# Altium footprint library Connectors.PcbLib: 80 footprints (part 1 of 5)
Each footprint in its own frame and in the unit in brackets; x right, y up, seen from the top. Pads: shape width x height; smd on the part's side, far side on the other; paste and mask are expansions set on the pad; w line width, h text height; cw(c..) or ccw(c..) is an arc to the next point about the centre after c.
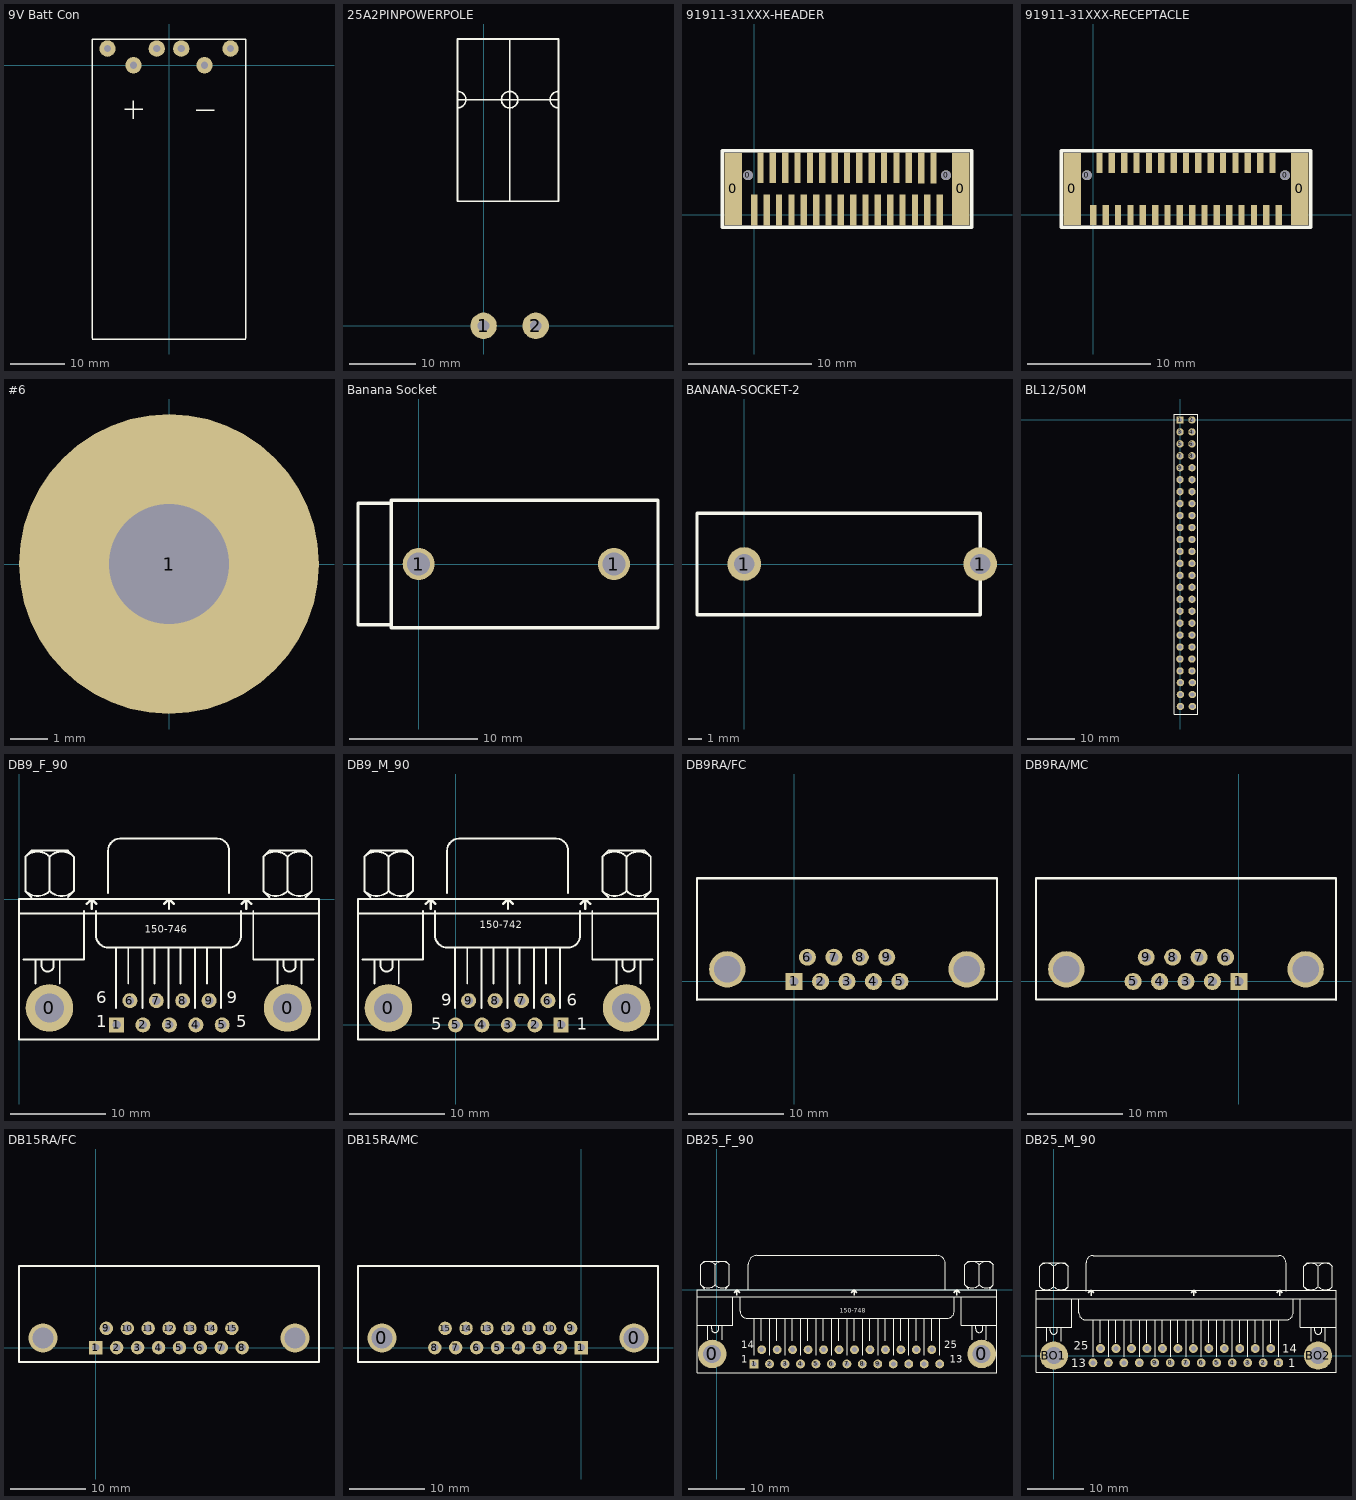
[diagram p0: the footprints below, top view; thin cyan lines are the x and y axes]

## 9V Batt Con [mm]
pads (6):
  round 3 hole 1.32: Batt+(-11.25,3.05) Batt+(-6.5,0) Batt+(-2.25,3.05) Batt-(2.25,3.05) Batt-(6.5,0) Batt-(11.25,3.05)
TopOverlay:
  lines w0.254: -14,-50.1 14,-50.1 ; -14,-50 -14,4.8 14,4.8 14,-50 ; -8.1,-8.1 -4.8,-8.1 ; -6.5,-9.8 -6.5,-6.5 ; 5,-8.2 8.3,-8.2

## 25A2PINPOWERPOLE [mm]
pads (2):
  round 4 hole 1.8: 1(0,0) 2(7.9,0)
TopOverlay:
  circle w0.254: c3.95,34.3 r1.25
  lines w0.254: -3.95,33.05 ccw(c-3.95,34.3) -3.95,35.55 ; -3.95,34.3 11.25,34.3 ; 11.35,33.05 cw(c11.35,34.3) 11.35,35.55 ; 3.95,18.9 11.35,18.9 11.35,43.5 3.95,43.5 ; 3.95,18.9 -3.95,18.9 -3.95,43.5 3.95,43.5 ; 3.95,18.9 3.95,43.5

## 91911-31XXX-HEADER [mm]
pads (35):
  rect 1.4x5.85 smd: 0(-1.72,2.11) 0(16.72,2.11)
  round 0.8 hole 0.8: 0(-0.52,3.21) 0(15.52,3.21)
  rect 0.51x2.5 smd: 1(15,0.4) 2(14.5,3.8) 3(14,0.4) 4(13.5,3.8) 5(13,0.4) 6(12.5,3.82) 7(12,0.4) 8(11.5,3.82) 9(11,0.4) 10(10.5,3.82) 11(10,0.4) 12(9.5,3.82) 13(9,0.4) 14(8.5,3.82) 15(8,0.4) 16(7.5,3.82) 17(7,0.4) 18(6.5,3.82) 19(6,0.4) 20(5.5,3.82) 21(5,0.4) 22(4.5,3.82) 23(4,0.4) 24(3.5,3.82) 25(3,0.4) 26(2.5,3.82) 27(2,0.4) 28(1.5,3.82) 29(1,0.4) 30(0.5,3.82) 31(0,0.4)
TopOverlay:
  lines w0.254: -2.6,-1 -2.6,5.2 17.6,5.2 17.6,-1 -2.6,-1

## 91911-31XXX-RECEPTACLE [mm]
pads (35):
  rect 1.4x5.85 smd: 0(-1.72,2.11) 0(16.72,2.11)
  round 0.8 hole 0.8: 0(-0.526,3.21) 0(15.52,3.21)
  rect 0.51x1.63 smd: 1(0,0) 2(0.5,4.22) 3(1,0) 4(1.5,4.22) 5(2,0) 6(2.5,4.22) 7(3,0) 8(3.5,4.22) 9(4,0) 10(4.5,4.22) 11(5,0) 12(5.5,4.22) 13(6,0) 14(6.5,4.22) 15(7,0) 16(7.5,4.22) 17(8,0) 18(8.5,4.22) 19(9,0) 20(9.5,4.22) 21(10,0) 22(10.5,4.22) 23(11,0) 24(11.5,4.22) 25(12,0) 26(12.5,4.22) 27(13,0) 28(13.5,4.22) 29(14,0) 30(14.5,4.22) 31(15,0)
TopOverlay:
  lines w0.254: -2.6,-1 -2.6,5.2 17.6,5.2 17.6,-1 -2.6,-1

## #6 [mm]
pads (1):
  round 8 hole 3.2: 1(0,0)

## Banana Socket [mm]
pads (2):
  round 2.5 hole 1.8: 1(0,0) 1(15.3,0)
TopOverlay:
  lines w0.254: -2.15,-4.75 -4.75,-4.75 -4.75,4.75 -2.15,4.75 ; -2.15,-5 -2.15,5 18.75,5 18.75,-5 -2.15,-5

## BANANA-SOCKET-2 [mm]
pads (2):
  round 2.5 hole 1.5: 1(0,0) 1(17.5,0)
TopOverlay:
  lines w0.254: -3.5,-3.75 -3.5,3.75 17.5,3.75 17.5,-3.75 -3.5,-3.75

## BL12/50M [mil]
pads (50):
  rect 62x62 hole 35: 1(0,0)
  round 62 hole 35: 2(100,0) 3(0,-100) 4(100,-100) 5(0,-200) 6(100,-200) 7(0,-300) 8(100,-300) 9(0,-400) 10(100,-400) 11(0,-500) 12(100,-500) 13(0,-600) 14(100,-600) 15(0,-700) 16(100,-700) 17(0,-800) 18(100,-800) 19(0,-900) 20(100,-900) 21(0,-1000) 22(100,-1000) 23(0,-1100) 24(100,-1100) 25(0,-1200) 26(100,-1200) 27(0,-1300) 28(100,-1300) 29(0,-1400) 30(100,-1400) 31(0,-1500) 32(100,-1500) 33(0,-1600) 34(100,-1600) 35(0,-1700) 36(100,-1700) 37(0,-1800) 38(100,-1800) 39(0,-1900) 40(100,-1900) 41(-1,-2000) 42(99,-2000) 43(0,-2100) 44(100,-2100) 45(3,-2197) 46(103,-2197) 47(3,-2297) 48(103,-2297) 49(3,-2397) 50(103,-2397)
TopOverlay:
  lines w10: -50,-2460 150,-2460 150,50 -50,50 -50,-2460

## DB9_F_90 [mil]
pads (11):
  round 196.67 hole 118.33: 0(125.83,-450) 0(1110,-450)
  rect 62x62 hole 35: 1(403.33,-520)
  round 62 hole 35: 2(512.5,-520) 3(621.67,-520) 4(730.83,-520) 5(840,-520) 6(458.33,-420) 7(567.5,-420) 8(676.67,-420) 9(785.83,-420)
TopOverlay:
  lines w8: 0,-60 1240,-60 ; 18.33,-250 268.33,-250 268.33,-50 ; 26.58,33.25 ccw(c76.67,83.33) 126.75,33.25 ; 26.58,175.09 cw(c76.67,125) 126.75,175.09 ; 51.67,8.33 26.67,33.33 26.67,175 51.67,200 201.67,200 226.67,175 226.67,33.33 201.67,8.33 ; 68.33,-350 68.33,-250 ; 93.33,-250 93.33,-275 ccw(c118.33,-275) 143.33,-275 143.33,-250 ; 126.58,33.25 ccw(c176.67,83.33) 226.75,33.25 ; 126.58,175.09 cw(c176.67,125) 226.75,175.09 ; 126.67,33.33 126.67,175 ; 168.33,-350 168.33,-250 ; 318.33,-50 318.33,-150 ccw(c368.33,-150) 368.33,-200 868.33,-200 ccw(c868.33,-150) 918.33,-150 918.33,-50 ; 368.33,25 368.33,200 cw(c418.33,200) 418.33,250 818.33,250 cw(c818.33,200) 868.33,200 868.33,25 ; 401.67,-450 401.67,-200 ; 451.67,-350 451.67,-200 ; 510,-450 510,-200 ; 560,-350 560,-200 ; 618.33,-450 618.33,-200 ; 668.33,-350 668.33,-200 ; 726.67,-450 726.67,-200 ; 776.67,-350 776.67,-200 ; 835,-450 835,-200 ; 968.33,-50 968.33,-250 1218.33,-250 ; 1009.91,33.25 ccw(c1060,83.33) 1110.09,33.25 ; 1009.91,175.09 cw(c1060,125) 1110.09,175.09 ; 1035,8.33 1010,33.33 1010,175 1035,200 1185,200 1210,175 1210,33.33 1185,8.33 ; 1068.33,-350 1068.33,-250 ; 1093.33,-250 1093.33,-275 ccw(c1118.33,-275) 1143.33,-275 1143.33,-250 ; 1109.91,33.25 ccw(c1160,83.33) 1210.09,33.25 ; 1109.91,175.09 cw(c1160,125) 1210.09,175.09 ; 1110,33.33 1110,175 ; 1168.33,-350 1168.33,-250 ; 0,-580 1240,-580 1240,0 0,0 0,-580
  lines w10: 280,-20 300,0 ; 300,-40 300,0 ; 320,-20 300,0 ; 600,-20 620,0 ; 620,-40 620,0 ; 640,-20 620,0 ; 920,-20 940,0 ; 940,-40 940,0 ; 960,-20 940,0
  text "9" at 858.33,-430 h50
  text "5" at 898.33,-530 h50
  text "1" at 318.33,-530 h50
  text "6" at 318.33,-430 h50
  text "150-746" at 520,-140 h30

## DB9_M_90 [mil]
pads (11):
  round 196.67 hole 118.33: 0(-277.5,70) 0(706.66,70)
  rect 62x62 hole 35: 1(436.67,0)
  round 62 hole 35: 2(327.5,0) 3(218.33,0) 4(109.17,0) 5(0,0) 6(381.67,100) 7(272.5,100) 8(163.33,100) 9(54.17,100)
TopOverlay:
  lines w8: -403.33,460 836.67,460 ; -385,270 -135,270 -135,470 ; -376.75,553.25 ccw(c-326.67,603.33) -276.58,553.25 ; -376.75,695.09 cw(c-326.67,645) -276.58,695.09 ; -351.67,528.33 -376.67,553.33 -376.67,695 -351.67,720 -201.67,720 -176.67,695 -176.67,553.33 -201.67,528.33 ; -335,170 -335,270 ; -310,270 -310,245 ccw(c-285,245) -260,245 -260,270 ; -276.75,553.25 ccw(c-226.67,603.33) -176.58,553.25 ; -276.75,695.09 cw(c-226.67,645) -176.58,695.09 ; -276.67,553.33 -276.67,695 ; -235,170 -235,270 ; -85,470 -85,370 ccw(c-35,370) -35,320 465,320 ccw(c465,370) 515,370 515,470 ; -35,545 -35,720 cw(c15,720) 15,770 415,770 cw(c415,720) 465,720 465,545 ; -1.67,70 -1.67,320 ; 48.33,170 48.33,320 ; 106.67,70 106.67,320 ; 156.67,170 156.67,320 ; 215,70 215,320 ; 265,170 265,320 ; 323.33,70 323.33,320 ; 373.33,170 373.33,320 ; 431.67,70 431.67,320 ; 565,470 565,270 815,270 ; 606.58,553.25 ccw(c656.66,603.33) 706.75,553.25 ; 606.58,695.09 cw(c656.66,645) 706.75,695.09 ; 631.66,528.33 606.66,553.33 606.66,695 631.66,720 781.66,720 806.66,695 806.66,553.33 781.66,528.33 ; 665,170 665,270 ; 690,270 690,245 ccw(c715,245) 740,245 740,270 ; 706.58,553.25 ccw(c756.66,603.33) 806.75,553.25 ; 706.58,695.09 cw(c756.66,645) 806.75,695.09 ; 706.66,553.33 706.66,695 ; 765,170 765,270 ; -403.33,-60 -403.33,520 836.67,520 836.67,-60 -403.33,-60
  lines w10: -123.33,500 -103.33,520 ; -103.33,480 -103.33,520 ; -83.33,500 -103.33,520 ; 196.67,500 216.67,520 ; 216.67,480 216.67,520 ; 236.67,500 216.67,520 ; 516.67,500 536.67,520 ; 536.67,480 536.67,520 ; 556.67,500 536.67,520
  text "6" at 460,80 h50
  text "1" at 500,-20 h50
  text "5" at -100,-20 h50
  text "9" at -60,80 h50
  text "150-742" at 100,400 h30

## DB9RA/FC [mil]
pads (11):
  rect 70x70 hole 38: 1(0,0)
  round 70 hole 38: 2(109,0) 3(218,0) 4(327,0) 5(436,0) 6(55,100) 7(164,100) 8(273,100) 9(382,100)
  round 150 hole 110: ""(-275,50) ""(711,50)
TopOverlay:
  lines w8: -400,-75 836,-75 836,425
  lines w10: -400,-75 -400,425 836,425

## DB9RA/MC [mil]
pads (11):
  rect 70x70 hole 38: 1(0,0)
  round 70 hole 38: 2(-109,0) 3(-218,0) 4(-327,0) 5(-436,0) 6(-55,100) 7(-164,100) 8(-273,100) 9(-382,100)
  round 150 hole 110: ""(-711,50) ""(275,50)
TopOverlay:
  lines w8: -836,425 -836,-75 400,-75
  lines w10: -836,425 400,425 400,-75

## DB15RA/FC [mil]
pads (17):
  rect 70x70 hole 38: 1(0,0)
  round 70 hole 38: 2(109,0) 3(218,0) 4(327,0) 5(436,0) 6(545,0) 7(654,0) 8(763,0) 9(55,100) 10(164,100) 11(273,100) 12(382,100) 13(491,100) 14(600,100) 15(709,100)
  round 150 hole 110: ""(-275,50) ""(1038,50)
TopOverlay:
  lines w8: -400,-75 1163,-75 1163,425
  lines w10: -400,-75 -400,425 1163,425

## DB15RA/MC [mil]
pads (17):
  round 150 hole 110: 0(-1038,50) 0(275,50)
  rect 70x70 hole 38: 1(0,0)
  round 70 hole 38: 2(-109,0) 3(-218,0) 4(-327,0) 5(-436,0) 6(-545,0) 7(-654,0) 8(-763,0) 9(-55,100) 10(-164,100) 11(-273,100) 12(-382,100) 13(-491,100) 14(-600,100) 15(-709,100)
TopOverlay:
  lines w8: -1163,425 -1163,-75 400,-75
  lines w10: -1163,425 400,425 400,-75

## DB25_F_90 [mil]
pads (27):
  round 200 hole 126: 0(-34,-450) 0(1854,-450)
  rect 62x62 hole 35: 1(260,-520)
  round 62 hole 35: 2(368.33,-520) 3(476.67,-520) 4(585,-520) 5(693.33,-520) 6(801.67,-520) 7(910,-520) 8(1018.33,-520) 9(1126.67,-520) 10(1235,-520) 11(1343.33,-520) 12(1451.67,-520) 13(1560,-520) 14(313.33,-420) 15(421.67,-420) 16(530,-420) 17(638.33,-420) 18(746.67,-420) 19(855,-420) 20(963.33,-420) 21(1071.67,-420) 22(1180,-420) 23(1288.33,-420) 24(1396.67,-420) 25(1505,-420)
TopOverlay:
  lines w8: -138.33,-250 111.67,-250 111.67,-50 ; -138.33,-50 1961.67,-50 ; -113.42,33.25 ccw(c-63.33,83.33) -13.25,33.25 ; -113.42,175.09 cw(c-63.33,125) -13.25,175.09 ; -88.33,8.33 -113.33,33.33 -113.33,175 -88.33,200 61.67,200 86.67,175 86.67,33.33 61.67,8.33 ; -63.33,-350 -63.33,-250 ; -38.33,-250 -38.33,-275 ccw(c-13.33,-275) 11.67,-275 11.67,-250 ; -13.42,33.25 ccw(c36.67,83.33) 86.75,33.25 ; -13.42,175.09 cw(c36.67,125) 86.75,175.09 ; -13.33,33.33 -13.33,175 ; 36.67,-350 36.67,-250 ; 161.67,-50 161.67,-150 ccw(c211.67,-150) 211.67,-200 1611.67,-200 ccw(c1611.67,-150) 1661.67,-150 1661.67,-50 ; 220,0 220,180 cw(c280,180) 280,240 1540,240 cw(c1540,180) 1600,180 1600,0 ; 261.67,-458.33 261.67,-200 ; 311.67,-358.33 311.67,-200 ; 370,-458.33 370,-200 ; 420,-358.33 420,-200 ; 478.33,-458.33 478.33,-200 ; 528.33,-358.33 528.33,-200 ; 586.67,-458.33 586.67,-200 ; 636.67,-358.33 636.67,-200 ; 695,-458.33 695,-200 ; 745,-358.33 745,-200 ; 803.33,-458.33 803.33,-200 ; 853.33,-358.33 853.33,-200 ; 911.67,-458.33 911.67,-200 ; 961.67,-358.33 961.67,-200 ; 1020,-458.33 1020,-200 ; 1070,-358.33 1070,-200 ; 1128.33,-458.33 1128.33,-200 ; 1178.33,-358.33 1178.33,-200 ; 1236.67,-458.33 1236.67,-200 ; 1286.67,-358.33 1286.67,-200 ; 1345,-458.33 1345,-200 ; 1395,-358.33 1395,-200 ; 1453.33,-458.33 1453.33,-200 ; 1503.33,-358.33 1503.33,-200 ; 1561.67,-458.33 1561.67,-200 ; 1711.67,-50 1711.67,-250 1961.67,-250 ; 1736.58,33.25 ccw(c1786.67,83.33) 1836.75,33.25 ; 1736.58,175.09 cw(c1786.67,125) 1836.75,175.09 ; 1761.67,8.33 1736.67,33.33 1736.67,175 1761.67,200 1911.67,200 1936.67,175 1936.67,33.33 1911.67,8.33 ; 1786.67,-350 1786.67,-250 ; 1811.67,-250 1811.67,-275 ccw(c1836.67,-275) 1861.67,-275 1861.67,-250 ; 1836.58,33.25 ccw(c1886.67,83.33) 1936.75,33.25 ; 1836.58,175.09 cw(c1886.67,125) 1936.75,175.09 ; 1836.67,33.33 1836.67,175 ; 1886.67,-350 1886.67,-250 ; -140,-580 1960,-580 1960,0 -140,0 -140,-580
  lines w10: 120,-20 140,0 ; 140,-40 140,0 ; 160,-20 140,0 ; 940,-20 960,0 ; 960,-40 960,0 ; 980,-20 960,0 ; 1660,-20 1680,0 ; 1680,-40 1680,0 ; 1700,-20 1680,0
  text "150-748" at 860,-160 h30
  text "13" at 1631.67,-510 h50
  text "25" at 1591.67,-410 h50
  text "14" at 171.67,-410 h50
  text "1" at 171.67,-510 h50

## DB25_M_90 [mil]
pads (27):
  oct 62x62 hole 35: 1(1573.33,-50)
  round 62 hole 35: 2(1465,-50) 3(1356.67,-50) 4(1248.33,-50) 5(1140,-50) 6(1031.67,-50) 7(923.33,-50) 8(815,-50) 9(706.67,-50) 10(598.33,-50) 11(490,-50) 12(381.67,-50) 13(273.33,-50) 14(1518.33,50) 15(1410,50) 16(1301.67,50) 17(1193.33,50) 18(1085,50) 19(976.67,50) 20(868.33,50) 21(760,50) 22(651.67,50) 23(543.33,50) 24(435,50) 25(326.67,50)
  round 196.67 hole 118.33: BO1(0,0) BO2(1850,0)
TopOverlay:
  lines w8: -125,200 125,200 125,400 ; -125,400 1975,400 ; -100.09,483.25 ccw(c-50,533.33) 0.09,483.25 ; -100.09,625.09 cw(c-50,575) 0.09,625.09 ; -75,458.33 -100,483.33 -100,625 -75,650 75,650 100,625 100,483.33 75,458.33 ; -50,100 -50,200 ; -25,200 -25,175 ccw(c0,175) 25,175 25,200 ; -0.09,483.25 ccw(c50,533.33) 100.09,483.25 ; -0.09,625.09 cw(c50,575) 100.09,625.09 ; 0,483.33 0,625 ; 50,100 50,200 ; 175,400 175,300 ccw(c225,300) 225,250 1625,250 ccw(c1625,300) 1675,300 1675,400 ; 225,450 225,650 cw(c275,650) 275,700 1575,700 cw(c1575,650) 1625,650 1625,450 ; 275,-8.33 275,250 ; 325,91.67 325,250 ; 383.33,-8.33 383.33,250 ; 433.33,91.67 433.33,250 ; 491.67,-8.33 491.67,250 ; 541.67,91.67 541.67,250 ; 600,-8.33 600,250 ; 650,91.67 650,250 ; 708.33,-8.33 708.33,250 ; 758.33,91.67 758.33,250 ; 816.67,-8.33 816.67,250 ; 866.67,91.67 866.67,250 ; 925,-8.33 925,250 ; 975,91.67 975,250 ; 1033.33,-8.33 1033.33,250 ; 1083.33,91.67 1083.33,250 ; 1141.67,-8.33 1141.67,250 ; 1191.67,91.67 1191.67,250 ; 1250,-8.33 1250,250 ; 1300,91.67 1300,250 ; 1358.33,-8.33 1358.33,250 ; 1408.33,91.67 1408.33,250 ; 1466.67,-8.33 1466.67,250 ; 1516.67,91.67 1516.67,250 ; 1575,-8.33 1575,250 ; 1725,400 1725,200 1975,200 ; 1749.91,483.25 ccw(c1800,533.33) 1850.09,483.25 ; 1749.91,625.09 cw(c1800,575) 1850.09,625.09 ; 1775,458.33 1750,483.33 1750,625 1775,650 1925,650 1950,625 1950,483.33 1925,458.33 ; 1800,100 1800,200 ; 1825,200 1825,175 ccw(c1850,175) 1875,175 1875,200 ; 1849.91,483.25 ccw(c1900,533.33) 1950.09,483.25 ; 1849.91,625.09 cw(c1900,575) 1950.09,625.09 ; 1850,483.33 1850,625 ; 1900,100 1900,200 ; -125,-116.67 1975,-116.67 1975,458.33 -125,458.33 -125,-116.67
  lines w10: 241.67,440 260,458.33 ; 260,420 260,458.33 ; 278.33,440 260,458.33 ; 961.67,440 980,458.33 ; 980,420 980,458.33 ; 998.33,440 980,458.33 ; 1561.67,440 1580,458.33 ; 1580,420 1580,458.33 ; 1598.33,440 1580,458.33
  text "1" at 1640,-80 h60
  text "14" at 1600,20 h60
  text "25" at 140,40 h60
  text "13" at 120,-80 h60